# EAGLE library part 690367290876 (library Wurth_Connectors_WR-MM)
WR-MM Female SMT Connector with Latch & Polarization KIND PROPERTIES: Pitch 2.54 mm Gender:Female MATERIAL PROPERTIES: Insulator Material:PA6T Insulator Flammability Rating UL94 V-0 Insulator Color:Red Contact Material :Phosphor Bronze Contact Plating :Mat Tin over Nickel Contact Type: Stamped GENERAL PROPERTIES: Operating Temperature:-40 °C up to +105 °C Compliance Lead free / RoHS ELECTRICAL PROPERTIES: Working Voltage 100 V (AC) Withstanding Voltage:500 V (AC) Contact Resistance: 10 mΩ Insulation Resistance:1000 MΩ PACKAGING PROPERTIES: cULus Approval:E323964 Packaging :Tape and Reel <https://katalog.we-online.com/media/images/v2/o33161v209%20WR-MiMo_69036729xx76.jpg> Details see: Web 1: https://katalog.we-online.com/en/em/MM_1_27_SMT_FEMALE_CONNECTOR_WITH_LATCH_AND_POLARIZATION_69036729XX76_2 Web2: https://katalog.we-online.com/en/em/MM_1_27_SMT_FEMALE_CONNECTOR_WITH_LATCH_AND_POLARIZATION_69036729XX76 Updated by Yingchun,Shan 2019-10-28 2019 (C) Würth Elektronik
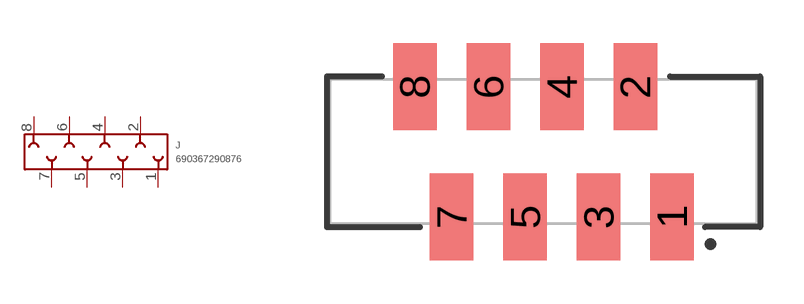
[diagram p106: symbol with the pads of 690367290876; footprint 690367290876]

Designator prefix J

## 690367290876 (DATASHEET-URL: https://www.we-online.com/catalog/datasheet/690367290876.pdf; GENDER: Female; IR: 1.5A; PACKAGING: Tape and Reel; PART-NUMBER: 690367290876; PINS: 8; PITCH: 2.54; TYPE: Straight; VALUE: 690367290876)  [690367290876]
1  1  pas
2  2  pas
3  3  pas
4  4  pas
5  5  pas
6  6  pas
7  7  pas
8  8  pas

## Footprint 690367290876 (pad centres in mm)
WR-MM Female SMT Connector with Latch & Polarization, 8 pins
smd 1.5 x 3: 1 4.445,-2.25; 2 3.175,2.25; 3 1.905,-2.25; 4 0.635,2.25; 5 -0.635,-2.25; 6 -1.905,2.25; 7 -3.175,-2.25; 8 -4.445,2.25